# Altium integrated library BB Power Mgt DC-DC Converter.IntLib: 5 symbols
Pins are listed as number, name and electrical type; pins without a type are passive.

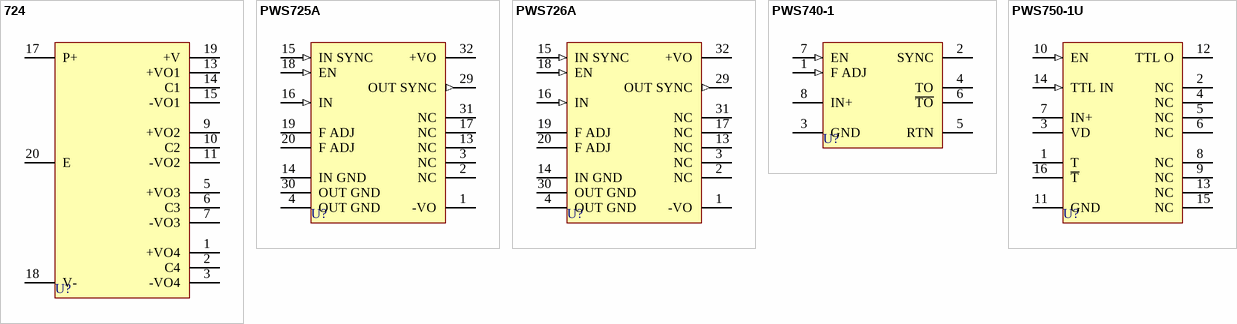
[diagram p0: symbols 724 to PWS750-1U]

## 724
designator U?
Quad Isolated DC/DC Converter; Note: No pins present at 4,8,12 and 16.; Published: 8-Jun-2000; LatestRevisionDate: 17-Jul-2002; LatestRevisionNote: Re-released for DXP Platform.; DatasheetVersion: 1996; PackageVersion: revA; PackageReference: ZZ102; Publisher: Altium Limited; PackageDescription: DIP; 20 Round Pins; Row Space 22.86 mm; Pitch 2.54 mm; ComponentLink1Description: Manufacturer Link; ComponentLink1URL: http://www.ti.com/
footprint ZZ102 (DIP; 20 Round Pins; Row Space 22.86 mm; Pitch 2.54 mm)
pins: 1 +VO4 (power), 2 C4, 3 -VO4 (power), 5 +VO3 (power), 6 C3, 7 -VO3 (power), 9 +VO2 (power), 10 C2, 11 -VO2 (power), 13 +VO1 (power), 14 C1, 15 -VO1 (power), 17 P+ (power), 18 V- (power), 19 +V (power), 20 E (power)

## PWS725A
designator U?
Isolated, Unregulated DC/DC Converter; Note: No pins at positions 5-12 and 21-28. Pins 2, 3, 13 ,17 and 31 are NC.; Published: 8-Jun-2000; LatestRevisionDate: 06-Jun-2005; LatestRevisionNote: Stylized 3D Model Added.; DatasheetVersion: 1989; PackageVersion: revE; PackageReference: ZZ210; Publisher: Altium Limited; PackageDescription: DIP; 32 Leads (16 Absent); Row Spacing 22.86 mm; Pitch 2.54 mm; ComponentLink1Description: Manufacturer Link; ComponentLink1URL: http://www.ti.com/
footprint ZZ210 (DIP; 32 Leads (16 Absent); Row Spacing 22.86 mm; Pitch 2.54 mm)
3D model ZZ210 (DIP; 32 Leads (16 Absent); Row Spacing 22.86 mm; Pitch 2.54 mm)
pins: 1 -VO (power), 2 NC, 3 NC, 4 OUT GND (power), 13 NC, 14 IN GND (power), 15 IN SYNC (in), 16 IN (in), 17 NC, 18 EN (in), 19 F ADJ, 20 F ADJ, 29 OUT SYNC (out), 30 OUT GND (power), 31 NC, 32 +VO (power)

## PWS726A
designator U?
Isolated, Unregulated DC/DC Converter; Note: No pins at positions 5-12 and 21-28. Pins 2, 3, 13 ,17 and 31 are NC.; Published: 8-Jun-2000; LatestRevisionDate: 06-Jun-2005; LatestRevisionNote: Stylized 3D Model Added.; DatasheetVersion: 1989; PackageVersion: revE; PackageReference: ZZ210; Publisher: Altium Limited; PackageDescription: DIP; 32 Leads (16 Absent); Row Spacing 22.86 mm; Pitch 2.54 mm; ComponentLink1Description: Manufacturer Link; ComponentLink1URL: http://www.ti.com/
footprint ZZ210 (DIP; 32 Leads (16 Absent); Row Spacing 22.86 mm; Pitch 2.54 mm)
3D model ZZ210 (DIP; 32 Leads (16 Absent); Row Spacing 22.86 mm; Pitch 2.54 mm)
pins: 1 -VO (power), 2 NC, 3 NC, 4 OUT GND (power), 13 NC, 14 IN GND (power), 15 IN SYNC (in), 16 IN (in), 17 NC, 18 EN (in), 19 F ADJ, 20 F ADJ, 29 OUT SYNC (out), 30 OUT GND (power), 31 NC, 32 +VO (power)

## PWS740-1
designator U?
Distributed Multichannel Isolated DC-To-DC Converter; Published: 8-Jun-2000; LatestRevisionDate: 17-Jul-2002; LatestRevisionNote: Re-released for DXP Platform.; DatasheetVersion: 1989; PackageVersion: revC; PackageReference: ZZ030; Publisher: Altium Limited; PackageDescription: Oval Flange Mount; 8 Leads; Pin Circle Dia. 12.7 mm; Lead Dia. 1.07 mm (max); ComponentLink1Description: Manufacturer Link; ComponentLink1URL: http://www.ti.com/
footprint ZZ030 (Oval Flange Mount; 8 Leads; Pin Circle Dia. 12.7 mm; Lead Dia. 1.07 mm (max))
pins: 1 F ADJ (in), 2 SYNC, 3 GND (power), 4 TO (power), 5 RTN (power), 6 ~{TO} (power), 7 EN (in), 8 IN+ (power)

## PWS750-1U
designator U?
Isolated, Unregulated DC/DC Converter Component; Note: Pins 2,4,5,6,8,9,13 and 15 are No internal Connection (NC) pins.; Published: 8-Jun-2000; LatestRevisionDate: 13-Apr-2006; LatestRevisionNote: IPC-7351 Footprint Added.; DatasheetVersion: 1989; PackageReference: SOIC16; Publisher: Altium Limited; PackageDescription: 16-Pin Small Outline Integrated Circuit 1.27 mm Pitch; Code_JEDEC: MS-013-AA; Code_IPC: SOIC127P1030-16; ComponentLink1Description: Manufacturer Link; ComponentLink1URL: http://www.ti.com/
footprint SOIC16_N (SOIC, 16-Leads, Body 10.4x7.5mm, Pitch 1.27mm, IPC Medium Density)
footprint SOIC16_L (SOIC, 16-Leads, Body 10.4x7.5mm, Pitch 1.27mm, IPC High Density)
footprint SOIC16_M (SOIC, 16-Leads, Body 10.4x7.5mm, Pitch 1.27mm, IPC Low Density)
3D model SOIC16 (16-Pin Small Outline Integrated Circuit 1.27 mm Pitch)
pins: 1 T (power), 2 NC, 3 VD (power), 4 NC, 5 NC, 6 NC, 7 IN+ (power), 8 NC, 9 NC, 10 EN (in), 11 GND (power), 12 TTL O (oc), 13 NC, 14 TTL IN (in), 15 NC, 16 ~{T} (power)